# EAGLE library part SENSOR (library lsd2016)
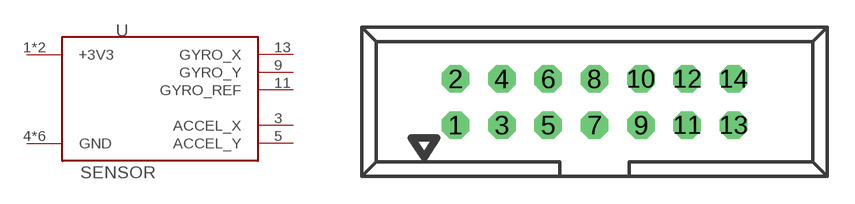
[diagram p0: symbol with the pads of CON_14; footprint CON_14]

Designator prefix -

## SENSOR  [CON_14]
1  +3V3  pwr
2  +3V3  pwr
3  ACCEL_X  out
4  GND  pwr
5  ACCEL_Y  out
6  GND  pwr
8  GND  pwr
9  GYRO_Y  out
10  GND  pwr
11  GYRO_REF  out
12  GND  pwr
13  GYRO_X  out
14  GND  pwr

## Footprint CON_14 (pad centres in mm)
drill 1 octagon: 1 -7.62,-1.27; 2 -7.62,1.27; 3 -5.08,-1.27; 4 -5.08,1.27; 5 -2.54,-1.27; 6 -2.54,1.27; 7 0,-1.27; 8 0,1.27; 9 2.54,-1.27; 10 2.54,1.27; 11 5.08,-1.27; 12 5.08,1.27; 13 7.62,-1.27; 14 7.62,1.27